# Altium schematic symbol library MDV6-TEMP.SchLib: 23 symbols
Pins are listed as number, name and electrical type; pins without a type are passive.

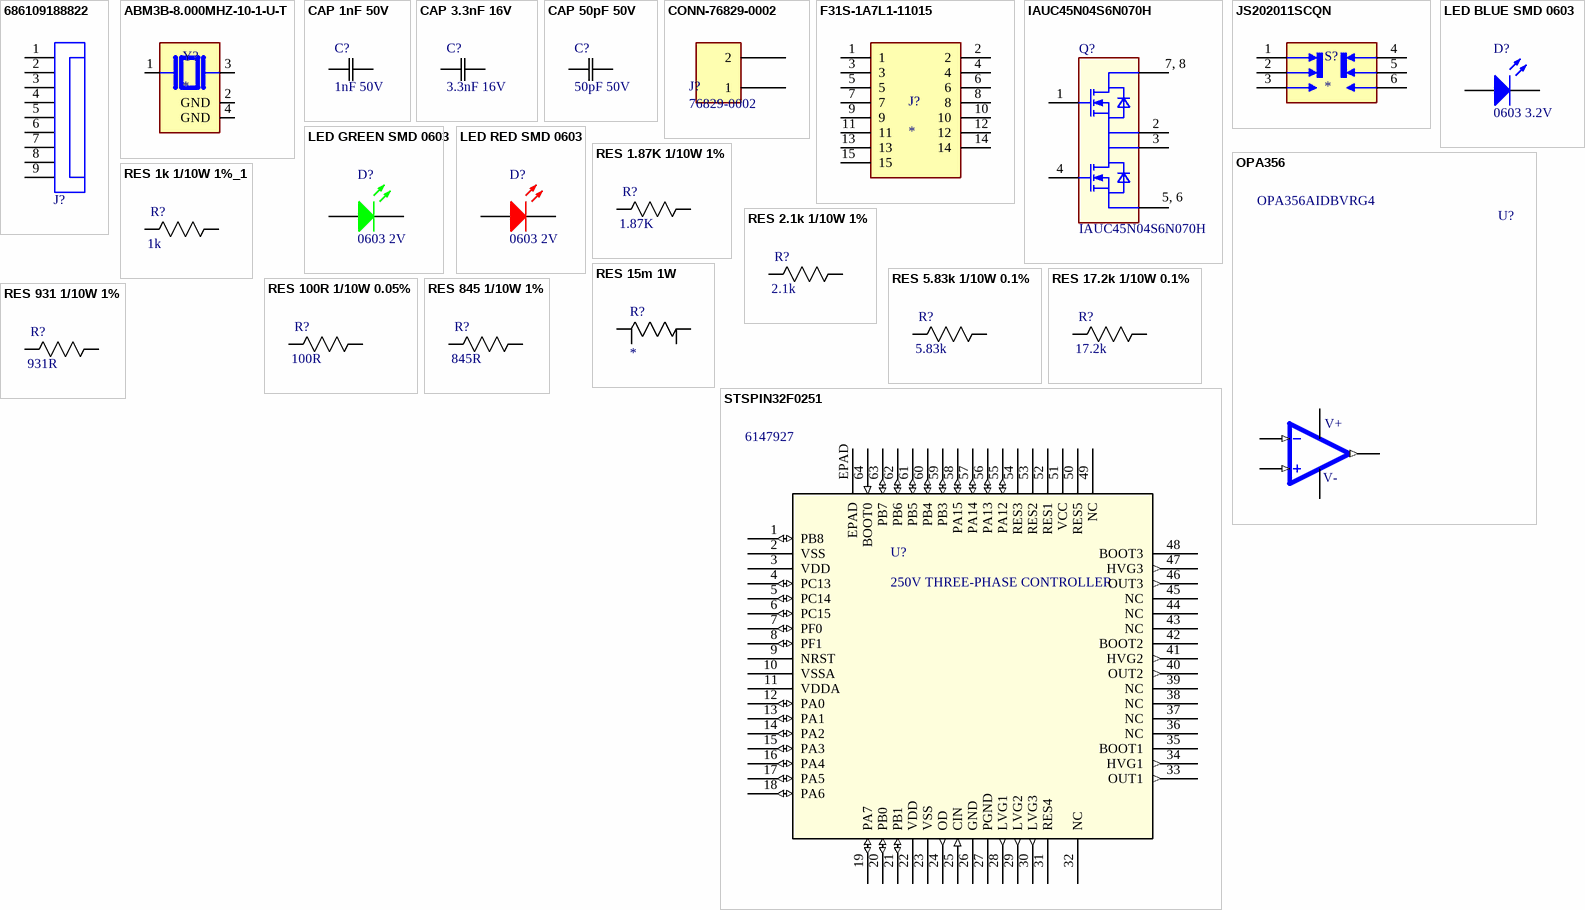
[diagram p0: symbols 686109188822 to STSPIN32F0251]

## 686109188822
designator J?  (value not drawn)
9 Position FPC Connector Contacts, Vertical - 1 Sided 0.039" (1.00mm) Surface Mount; Manufacturer: Wurth Elektronik; Match Code: WR-FPC; Contact Resistance: 30mΩ; Pitch: 1mm; Rated Current: 1A; Working Voltage: 125VAC; ComponentLink1Description: Website Link; ComponentLink1URL: https://www.we-online.com/redexpert/article/686109188822?ad; ComponentLink2Description: Datasheet Link; ComponentLink2URL: https://www.we-online.com/redexpert/spec/686109188822?ad; Manufacturer Part Number: 686109188822; Category: FPC Connectors; Mount: Surface Mount; Operating Temperature Max: 85°C; Operating Temperature Min: -25°C; Packaging: Tape and Reel; Length: 12mm; Width: 4.4mm; Height: 5.1mm; Number of Pins: 9; Orientation: Vertical
footprint 686109188822
pins: 1, 2, 3, 4, 5, 6, 7, 8, 9

## ABM3B-8.000MHZ-10-1-U-T
designator Y?
8 MHz ±10ppm Crystal 10pF 200 Ohms 4-SMD, No Lead; MP: ABM3B-8.000MHZ-10-1-U-T; MF: Abracon; Value: *; Package: SMD-4 Abracon LLC; SnapEDA_Link: https://www.snapeda.com/parts/ABM3B-8.000MHZ-10-1-U-T/Abracon+LLC/view-part/?ref=snap; Purchase-URL: https://pricing.snapeda.com/search/part/ABM3B-8.000MHZ-10-1-U-T/?ref=eda; Availability: In Stock; Price: None; Check_prices: https://www.snapeda.com/parts/ABM3B-8.000MHZ-10-1-U-T/Abracon+LLC/view-part/?ref=eda
footprint XTAL_ABM3B-8.000MHZ-10-1-U-T
pins: 1, 2 GND (power), 3 2, 4 GND (power)

## CAP 1nF 50V
designator C?, comment 1nF 50V
CAP CER 0603 1NF 50V X7R 10%; Value: 10nF; Package: 0805; Rating: 50V; Tolerance: 10%; Temperature Coefficient: X7R; Operating Temperature: -55°C ~ 125°C; Supplier 1: Mouser; Supplier Part Number 1: 80-C0603X102K5R3316
footprint 0603 (Chip Resistor, 2-Leads, Body 1.60x0.80mm, IPC High Density)
pins: 1 C1, 2 C2

## CAP 3.3nF 16V
designator C?, comment 3.3nF 16V
CAP CER 0603 3.3NF 16V X7R 10%; Value: 10nF; Rating: 50V; Package: 0805; Tolerance: 10%; Temperature Coefficient: X7R; Operating Temperature: -55°C ~ 125°C; Supplier 1: Mouser; Supplier Part Number 1: 80-C0603C332K4RECLR
footprint 0603 (Chip Resistor, 2-Leads, Body 1.60x0.80mm, IPC High Density)
pins: 1 C1, 2 C2

## CAP 50pF 50V
designator C?, comment 50pF 50V
50 pF ±5% 50V Ceramic Capacitor C0G, NP0 0603 (1608 Metric); Value: 10nF; Tolerance: 10%; Temperature Coefficient: X7R; Package: 0805; Rating: 50V; Operating Temperature: -55°C ~ 125°C; Supplier 1: Digikey; Supplier Part Number 1: 13-CC0603JRNPO9BN500CT-ND
footprint 0603 (Chip Resistor, 2-Leads, Body 1.60x0.80mm, IPC High Density)
pins: 1 C1, 2 C2

## CONN-76829-0002
designator J?, comment 76829-0002
2POS MEGAFIT MOLEX / CONN HEADER VERT 5.7MM; Number of Circuits: 2; Gender: Male; Primary Type: Rectangular; Glow Wire Compliant: Compliant; Connector Type: Male Pin; Row Spacing: 0.224inch; Supplier 1: Farnell; Manufacturer: Molex; Manufacturer Part Number: 76829-0002; Stock 1: 5343; Pricing 1: 1=0.924, 10=0.665, 50=0.655, 100=0.645, 500=0.635, 1000=0.507 (GBP); Mount: Through Hole; Number of Pins: 2; Color: Black; Contact Plating: Tin; Contact Material: Copper; Termination: Through Hole; Number of Rows: 2; Orientation: Vertical; Number of Contacts: 2; Pitch: 5.7mm; RoHS Compliant: Yes; Halogen Free: Low Halogen; ComponentLink1URL: http://www.farnell.com/datasheets/2215964.pdf?src-supplier=Farnell; ComponentLink1Description: http://www.farnell.com/datasheets/2215964.pdf?src-supplier=Farnell; ComponentLink2URL: http://www.farnell.com/datasheets/1968956.pdf?src-supplier=Element14; ComponentLink2Description: http://www.farnell.com/datasheets/1968956.pdf?src-supplier=Element14; ComponentLink3URL: http://www.farnell.com/datasheets/2698580.pdf?src-supplier=Farnell; ComponentLink3Description: http://www.farnell.com/datasheets/2698580.pdf?src-supplier=Farnell; ComponentLink4URL: http://www.farnell.com/datasheets/2698580.pdf?src-supplier=Element14; ComponentLink4Description: http://www.farnell.com/datasheets/2698580.pdf?src-supplier=Element14; ComponentLink5URL: http://www.farnell.com/datasheets/2698580.pdf?src-supplier=Newark; ComponentLink5Description: http://www.farnell.com/datasheets/2698580.pdf?src-supplier=Newark; ComponentLink6URL: http://www.alliedelec.com/images/products/datasheets/bm/BrandonData/70717230.pdf?src-supplier=Allied+Electronics; ComponentLink6Description: http://www.alliedelec.com/images/products/datasheets/bm/BrandonData/70717230.pdf?src-supplier=Allied+Electronics; ComponentLink7URL: https://www.molex.com/pdm_docs/sd/768290002_sd.pdf?src-supplier=Digi-Key; ComponentLink7Description: https://www.molex.com/pdm_docs/sd/768290002_sd.pdf?src-supplier=Digi-Key; Supplier 2: Digi-Key; Stock 2: 14848; Pricing 2: 1=1.05, 10=0.872, 80=0.727, 1520=0.54525, 3040=0.52707 (USD); Packaging: Tray; Number of Positions: 2; Fastening Type: Ramp; Supplier Part Number 2: WM11975-ND
footprint 2POS MEGAFIT (2POS MOLEX MEGAFIT)
pins: 1, 2

## F31S-1A7L1-11015
designator J?
15 Position FFC, FPC Connector Contacts, Vertical - 1 Sided 0.020" (0.50mm) Surface Mount; MF: Amphenol ICC / Aorora; MP: F31S-1A7L1-11015; Package: None; Price: None; Check_prices: https://www.snapeda.com/parts/F31S-1A7L1-11015/Amphenol/view-part/?ref=eda; Value: *; SnapEDA_Link: https://www.snapeda.com/parts/F31S-1A7L1-11015/Amphenol/view-part/?ref=snap; Availability: In Stock; Purchase-URL: https://pricing.snapeda.com/search/part/F31S-1A7L1-11015/?ref=eda
footprint AMPHENOL_F31S-1A7L1-11015
pins: 1, 2, 3, 4, 5, 6, 7, 8, 9, 10, 11, 12, 13, 14, 15

## IAUC45N04S6N070H
designator Q?
MOSFET 2N-CH 40V 45A 8TDSON; Manufacturer: Infineon Technologies; PackageReference: PG-TDSON-8-57; Manufacturer Order Number: IAUC45N04S6N070H
footprint IFX-PG-TDSON-8-57-V (TDSON 8, 1.27mm pitch; 8 pin, 5.48 mm L X 5.15 mm W X 1 mm H body)
pins: 1 GATE1, 2 SOURCE1, 3 DRAIN2, 4 GATE2, 5 SOURCE2_1, 6 SOURCE2_2, 7 DRAIN1_1, 8 DRAIN1_2
text: 7, 8; 5, 6

## JS202011SCQN
designator S?
SWITCH SLIDE DPDT 300MA 6V; MP: JS202011SCQN; Price: None; Availability: Unavailable; Value: *; Package: None
footprint SW_JS202011SCQN
pins: 1, 2, 3, 4, 5, 6

## LED BLUE SMD 0603
designator D?, comment 0603 3.2V
Blue 470nm LED Indication - Discrete 3.2V 0603 (1608 Metric); Supplier 1: Digikey; Supplier Part Number 1: 732-4966-1-ND
footprint 0603 - LED
pins: 1 A, 2 K

## LED GREEN SMD 0603
designator D?, comment 0603 2V
Green 570nm LED Indication - Discrete 2V 0603 (1608 Metric); Supplier 1: Digikey; Supplier Part Number 1: 732-4980-1-ND
footprint 0603 - LED
pins: 1 A, 2 K

## LED RED SMD 0603
designator D?, comment 0603 2V
Red 625nm LED Indication - Discrete 2V 0603 (1608 Metric); Supplier 1: Digikey; Supplier Part Number 1: 732-4978-1-ND
footprint 0603 - LED
pins: 1 A, 2 K

## OPA356
designator U?  Supplier Part Number 1: OPA356AIDBVRG4
IC OPAMP VFB 1 CIRCUIT SOT23-5; Manufacturer: Analog Devices; Manufacturer Part Number: ADA4505-1ARJZ-R7; RoHS: Yes; Category: Amplifiers - Op Amps, Buffer, Instrumentation; Number of Pins: 5; Max Operating Temperature: 125°C; REACH SVHC: No SVHC; ComponentLink1URL: https://datasheet.ciiva.com/22712/1610797-22712032.pdf?src-supplier=Element14; ComponentLink1Description: https://datasheet.ciiva.com/22712/1610797-22712032.pdf?src-supplier=Element14; ComponentLink2URL: https://datasheet.ciiva.com/23805/608874-23805844.pdf?src-supplier=Newark; ComponentLink2Description: https://datasheet.ciiva.com/23805/608874-23805844.pdf?src-supplier=Newark; ComponentLink3URL: https://datasheet.ciiva.com/1487/1610797-1487372.pdf?src-supplier=Element14; ComponentLink3Description: https://datasheet.ciiva.com/1487/1610797-1487372.pdf?src-supplier=Element14; Digikey: ADA4505-1ARJZ-R7CT-ND; Supplier 1: Heisener
footprint SOT-23-5_MC_MCH-L
pins: 1 OUT (out), 2 V- (power), 3 IN+ (in), 4 IN- (in), 5 V+ (power)

## RES 1.87K 1/10W 1%
designator R?, comment 1.87K
RES 1.87K OHM 1% 1/10W 0603; Value: 8.45k; Power (Watts): 0.125W; Package: 0603; Tolerance: 1%; Supplier 1: Future Electronics; Supplier Part Number 1: 2610988
footprint 0603 (Chip Resistor, 2-Leads, Body 1.60x0.80mm, IPC High Density)
pins: 1 R1, 2 R2

## RES 1k 1/10W 1%_1
designator R?, comment 1k
RES 1k OHM 1% 1/10W 0603; Value: 8.45k; Power (Watts): 0.125W; Package: 0603; Tolerance: 1%; Supplier 1: Future Electronics; Supplier Part Number 1: 4016291
footprint 0603 (Chip Resistor, 2-Leads, Body 1.60x0.80mm, IPC High Density)
pins: 1 R1, 2 R2

## RES 2.1k 1/10W 1%
designator R?, comment 2.1k
RES 2.1k OHM 1% 1/10W 0603; Value: 8.45k; Power (Watts): 0.125W; Package: 0603; Tolerance: 1%; Supplier 1: Digikey; Supplier Part Number 1: RMCF0603FT2K10CT-ND
footprint 0603 (Chip Resistor, 2-Leads, Body 1.60x0.80mm, IPC High Density)
pins: 1 R1, 2 R2

## RES 5.83k 1/10W 0.1%
designator R?, comment 5.83k
RES 5.83K OHM 0.1% 1/10W 0603; Value: 8.45k; Power (Watts): 0.125W; Tolerance: 1%; Package: 0603; Supplier 1: Digikey; Supplier Part Number 1: 2019-RN73H1JTTD5831B25CT-ND
footprint 0603 (Chip Resistor, 2-Leads, Body 1.60x0.80mm, IPC High Density)
pins: 1 R1, 2 R2

## RES 15m 1W
designator R?
1W 0.015 OHM METAL ALLOY CS 1% C 1206; ComponentLink1Description: New link; ComponentLink1URL: https://www.digikey.ca/en/products/detail/ohmite/MCS1632R015DER/22672431; Supplier 1: Digikey; Supplier Part Number 1: 273-MCS1632R015DERCT-ND
footprint 1206 - Current Sense
pins: 1, 2, S1, S2

## RES 17.2k 1/10W 0.1%
designator R?, comment 17.2k
RES 17.2k OHM 0.1% 1/10W 0603; Value: 8.45k; Power (Watts): 0.125W; Tolerance: 1%; Package: 0603; Supplier 1: Digikey; Supplier Part Number 1: 2019-RN73H1JTTD1722B25CT-ND
footprint 0603 (Chip Resistor, 2-Leads, Body 1.60x0.80mm, IPC High Density)
pins: 1 R1, 2 R2

## RES 100R 1/10W 0.05%
designator R?, comment 100R
RES SMD 100 OHM 0.05% 1/10W 0603; Value: 8.45k; Power (Watts): 0.125W; Tolerance: 1%; Package: 0603; Supplier 1: Digikey; Supplier Part Number 1: RG16N100WCT-ND
footprint 0603 (Chip Resistor, 2-Leads, Body 1.60x0.80mm, IPC High Density)
pins: 1 R1, 2 R2

## RES 845 1/10W 1%
designator R?, comment 845R
RES 845 OHM 1% 1/10W 0603; Value: 8.45k; Power (Watts): 0.125W; Package: 0603; Tolerance: 1%; Supplier 1: Future Electronics; Supplier Part Number 1: 7098270
footprint 0603 (Chip Resistor, 2-Leads, Body 1.60x0.80mm, IPC High Density)
pins: 1 R1, 2 R2

## RES 931 1/10W 1%
designator R?, comment 931R
RES 931 OHM 1% 1/10W 0603; Value: 8.45k; Power (Watts): 0.125W; Package: 0603; Tolerance: 1%; Supplier 1: Future Electronics; Supplier Part Number 1: 3610656
footprint 0603 (Chip Resistor, 2-Leads, Body 1.60x0.80mm, IPC High Density)
pins: 1 R1, 2 R2

## STSPIN32F0251
designator U?, comment 250V THREE-PHASE CONTROLLER  Supplier Part Number 1: 6147927
250V THREE-PHASE CONTROLLER with an MCU (STM32F031x6x7) featuring an ARM® 32-bit Cortex®-M0 CPU and a 250V triple half bridge gate driver, able to drive N-channel power MOSFETs or / IGBTs; Mfr_Name: STMicroelectronics; RefDes: RefDes; Type: Type; Supplier 1: Future Electronics
footprint TQFP64_10X10_STM-M
pins: 1 PB8 (io), 2 VSS (power), 3 VDD (power), 4 PC13 (io), 5 PC14 (io), 6 PC15 (io), 7 PF0 (io), 8 PF1 (io), 9 NRST, 10 VSSA (power), 11 VDDA (power), 12 PA0 (io), 13 PA1 (io), 14 PA2 (io), 15 PA3 (io), 16 PA4 (io), 17 PA5 (io), 18 PA6 (io), 19 PA7 (io), 20 PB0 (io), 21 PB1 (io), 22 VDD (power), 23 VSS (power), 24 OD (out), 25 CIN (in), 26 GND (power), 27 PGND (power), 28 LVG1 (out), 29 LVG2 (out), 30 LVG3 (out), 31 RES4, 32 NC, 33 OUT1 (out), 34 HVG1 (out), 35 BOOT1 (power), 36 NC, 37 NC, 38 NC, 39 NC, 40 OUT2 (out), 41 HVG2 (out), 42 BOOT2 (power), 43 NC, 44 NC, 45 NC, 46 OUT3 (out), 47 HVG3 (out), 48 BOOT3 (power), 49 NC, 50 RES5, 51 VCC (power), 52 RES1, 53 RES2, 54 RES3, 55 PA12 (io), 56 PA13 (io), 57 PA14 (io), 58 PA15 (io), 59 PB3 (io), 60 PB4 (io), 61 PB5 (io), 62 PB6 (io), 63 PB7 (io), 64 BOOT0 (in), EPAD (power)